# EAGLE library part AJTG_10P (library ATMEL)
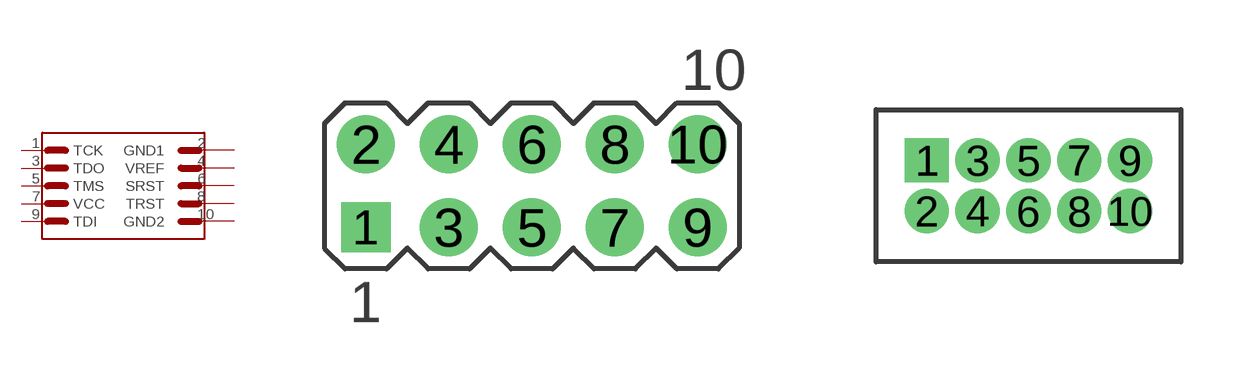
[diagram p2: symbol with the pads of MA05-2; footprints MA05-2, HEADER2X5_50]

Designator prefix -

## AJTG_10P100_MIL  [MA05-2]
1  TCK
2  GND1
3  TDO
4  VREF
5  TMS
6  SRST
7  VCC
8  TRST
9  TDI
10  GND2

## AJTG_10P50_MIL  [HEADER2X5_50]
1  TCK
2  GND2
3  TDO
4  VREF
5  TMS
6  SRST
7  VCC
8  TRST
9  TDI
10  GND1

## Footprint MA05-2 (pad centres in mm)
PIN HEADER
drill 1.016 square: 1 -5.08,-1.27
drill 1.016 pad 1.778 round: 2 -5.08,1.27; 3 -2.54,-1.27; 4 -2.54,1.27; 5 0,-1.27; 6 0,1.27; 7 2.54,-1.27; 8 2.54,1.27; 9 5.08,-1.27; 10 5.08,1.27

## Footprint HEADER2X5_50 (pad centres in mm)
drill 0.6 pad 1.016 square: 1 0,0
drill 0.6 pad 1.016 round: 2 0,-1.27; 3 1.27,0; 4 1.27,-1.27; 5 2.54,0; 6 2.54,-1.27; 7 3.81,0; 8 3.81,-1.27; 9 5.08,0; 10 5.08,-1.27